# Altium footprint library HANDS-FREEE-PcbLib-V1.9.PcbLib: 236 footprints (part 6 of 16)
Each footprint in its own frame and in the unit in brackets; x right, y up, seen from the top. Pads: shape width x height; smd on the part's side, far side on the other; paste and mask are expansions set on the pad; w line width, h text height; cw(c..) or ccw(c..) is an arc to the next point about the centre after c.
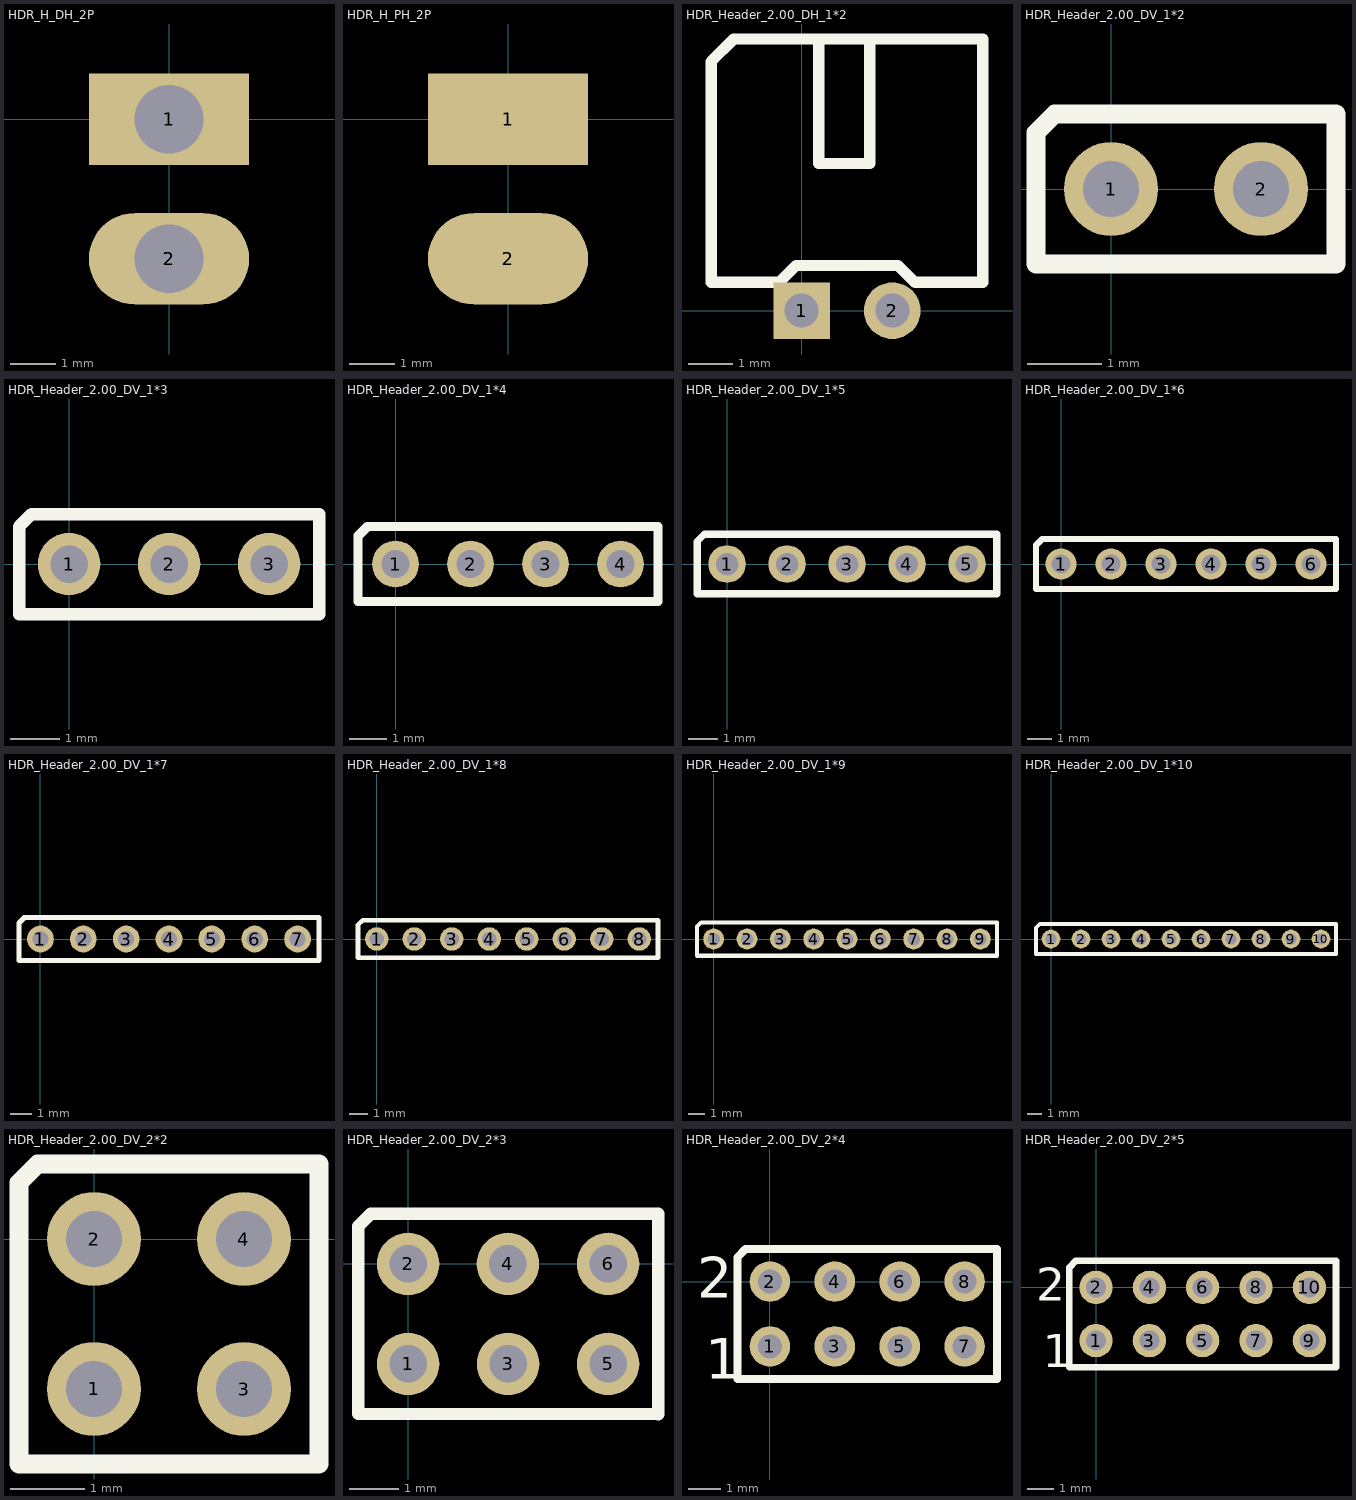
[diagram p5: the footprints below, top view; thin cyan lines are the x and y axes]

## HDR_H_DH_2P [mm]
pads (2):
  rect 3.5x2 hole 1.5: 1(0,0)
  oval 3.5x2 hole 1.5: 2(0,-3.048)

## HDR_H_PH_2P [mm]
pads (2):
  rect 3.5x2 smd: 1(0,0)
  oval 3.5x2 smd: 2(0,-3.048)

## HDR_Header_2.00_DH_1*2 [mil]
pads (2):
  rect 50x50 hole 30: 1(0,0)
  round 50 hole 30: 2(80,0)
Top Overlay:
  lines w10: 15,240 15,130 60,130 60,240 ; -80,25 -20,25 -5,40 85,40 100,25 160,25 160,240 -60,240 -80,220 -80,25

## HDR_Header_2.00_DV_1*2 [mil]
pads (2):
  round 50 hole 30: 1(0,0) 2(80,0)
Top Overlay:
  lines w10: -40,-40 120,-40 120,40 -30,40 -40,30 -40,-40

## HDR_Header_2.00_DV_1*3 [mil]
pads (3):
  round 50 hole 30: 1(0,0) 2(80,0) 3(160,0)
Top Overlay:
  lines w10: -40,-40 200,-40 200,40 -30,40 -40,30 -40,-40

## HDR_Header_2.00_DV_1*4 [mil]
pads (4):
  round 50 hole 30: 1(0,0) 2(80,0) 3(160,0) 4(240,0)
Top Overlay:
  lines w10: -40,-40 200,-40 280,-40 280,40 -30,40 -40,30 -40,-40

## HDR_Header_2.00_DV_1*5 [mil]
pads (5):
  round 50 hole 30: 1(0,0) 2(80,0) 3(160,0) 4(240,0) 5(320,0)
Top Overlay:
  lines w10: -40,-40 -40,30 -30,40 360,40 360,-40 200,-40 -40,-40

## HDR_Header_2.00_DV_1*6 [mil]
pads (6):
  round 50 hole 30: 1(0,0) 2(80,0) 3(160,0) 4(240,0) 5(320,0) 6(400,0)
Top Overlay:
  lines w10: -40,-40 200,-40 440,-40 440,40 -30,40 -40,30 -40,-40

## HDR_Header_2.00_DV_1*7 [mil]
pads (7):
  round 50 hole 30: 1(0,0) 2(80,0) 3(160,0) 4(240,0) 5(320,0) 6(400,0) 7(480,0)
Top Overlay:
  lines w10: -40,-40 200,-40 520,-40 520,40 -30,40 -40,30 -40,-40

## HDR_Header_2.00_DV_1*8 [mil]
pads (8):
  round 50 hole 30: 1(0,0) 2(80,0) 3(160,0) 4(240,0) 5(320,0) 6(400,0) 7(480,0) 8(560,0)
Top Overlay:
  lines w10: -40,-40 200,-40 600,-40 600,40 -30,40 -40,30 -40,-40

## HDR_Header_2.00_DV_1*9 [mil]
pads (9):
  round 50 hole 30: 1(0,0) 2(80,0) 3(160,0) 4(240,0) 5(320,0) 6(400,0) 7(480,0) 8(560,0) 9(640,0)
Top Overlay:
  lines w10: -40,-40 -40,30 -30,40 680,40 680,-40 200,-40 -40,-40

## HDR_Header_2.00_DV_1*10 [mil]
pads (10):
  round 50 hole 30: 1(0,0) 2(80,0) 3(160,0) 4(240,0) 5(320,0) 6(400,0) 7(480,0) 8(560,0) 9(640,0) 10(720,0)
Top Overlay:
  lines w10: -40,-40 200,-40 760,-40 760,40 -30,40 -40,30 -40,-40

## HDR_Header_2.00_DV_2*2 [mil]
pads (4):
  round 50 hole 30 paste+0: 1(0,-80)
  round 50 hole 30: 2(0,0) 3(80,-80) 4(80,0)
Top Overlay:
  lines w10: -40,-120 -40,30 -30,40 120,40 120,-120 -40,-120

## HDR_Header_2.00_DV_2*3 [mil]
pads (6):
  round 50 hole 30: 1(0,-80) 2(0,0) 3(80,-80) 4(80,0) 5(160,-80) 6(160,0)
Top Overlay:
  lines w10: -40,-120 200,-120 200,40 -30,40 -40,30 -40,-120

## HDR_Header_2.00_DV_2*4 [mil]
pads (8):
  round 50 hole 30: 1(0,-80) 2(0,0) 3(80,-80) 4(80,0) 5(160,-80) 6(160,0) 7(240,-80) 8(240,0)
Top Overlay:
  lines w10: -40,-120 -40,30 -30,40 280,40 280,-120 -40,-120
  text "2" at -90,-20 h50
  text "1" at -80,-120 h50

## HDR_Header_2.00_DV_2*5 [mil]
pads (10):
  round 50 hole 30: 1(0,-80) 2(0,0) 3(80,-80) 4(80,0) 5(160,-80) 6(160,0) 7(240,-80) 8(240,0) 9(320,-80) 10(320,0)
Top Overlay:
  lines w10: -40,-120 -40,30 -30,40 360,40 360,-120 -40,-120
  text "2" at -90,-20 h50
  text "1" at -80,-120 h50